# Altium footprint library UCC21520DW.PcbLib: 4 footprints
Each footprint in its own frame and in the unit in brackets; x right, y up, seen from the top. Pads: shape width x height; smd on the part's side, far side on the other; paste and mask are expansions set on the pad; w line width, h text height; cw(c..) or ccw(c..) is an arc to the next point about the centre after c.
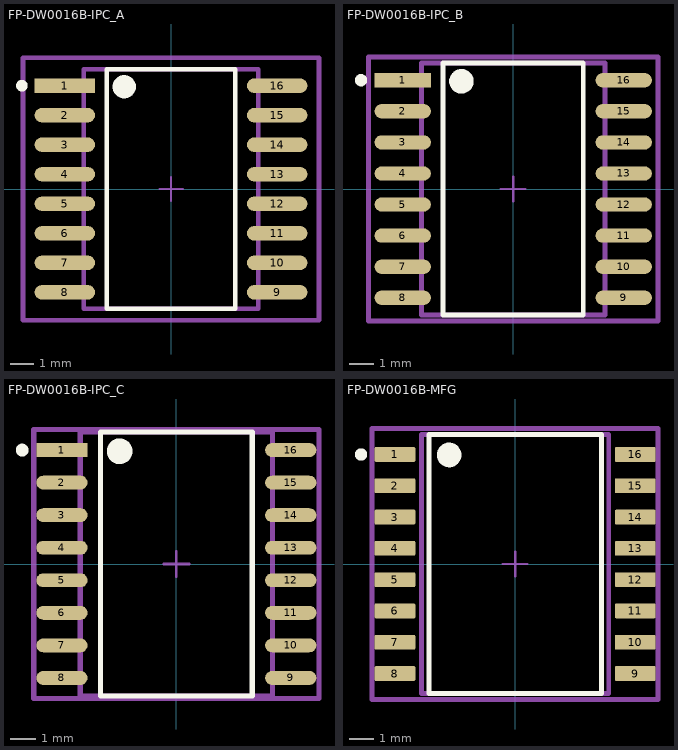
[diagram p0: the footprints below, top view; thin cyan lines are the x and y axes]

## FP-DW0016B-IPC_A [mm]
pads (16):
  rect 2.603x0.622 smd paste+0 mask+0: 1(-4.565,4.445)
  rrect100% 2.603x0.622 smd paste+0 mask+0: 2(-4.565,3.175) 3(-4.565,1.905) 4(-4.565,0.635) 5(-4.565,-0.635) 6(-4.565,-1.905) 7(-4.565,-3.175) 8(-4.565,-4.445) 9(4.565,-4.445) 10(4.565,-3.175) 11(4.565,-1.905) 12(4.565,-0.635) 13(4.565,0.635) 14(4.565,1.905) 15(4.565,3.175) 16(4.565,4.445)
Top Overlay:
  circle w0.25: c-6.417,4.445 r0.125
  circle w0.5: c-2.014,4.4 r0.25
  lines w0.2: -2.764,-5.15 -2.764,5.15 2.764,5.15 2.764,-5.15 -2.764,-5.15
Top 3D Body:
  lines w0.2: -3.75,-5.15 -3.75,5.15 3.75,5.15 3.75,-5.15 -3.75,-5.15
Top Assembly:
  lines w0.2: -6.367,-5.65 -6.367,5.65 6.367,5.65 6.367,-5.65 -6.367,-5.65
  text ".Designator" at 0,0.188 h1
Top Component Center:
  lines w0.1: -0.5,0 0.5,0 ; 0,-0.5 0,0.5
Top Courtyard:
  lines w0.2: -6.367,-5.65 -6.367,5.65 6.367,5.65 6.367,-5.65 -6.367,-5.65
3D body "IC_Texas_Instruments_ISO5852SDWR_eec.STEP": height 0.25, standoff 0, extent -6.367,-5.65 6.367,5.65

## FP-DW0016B-IPC_B [mm]
pads (16):
  rect 2.303x0.582 smd paste+0 mask+0: 1(-4.515,4.445)
  rrect100% 2.303x0.582 smd paste+0 mask+0: 2(-4.515,3.175) 3(-4.515,1.905) 4(-4.515,0.635) 5(-4.515,-0.635) 6(-4.515,-1.905) 7(-4.515,-3.175) 8(-4.515,-4.445) 9(4.515,-4.445) 10(4.515,-3.175) 11(4.515,-1.905) 12(4.515,-0.635) 13(4.515,0.635) 14(4.515,1.905) 15(4.515,3.175) 16(4.515,4.445)
Top Overlay:
  circle w0.25: c-6.217,4.445 r0.125
  circle w0.5: c-2.114,4.4 r0.25
  lines w0.2: -2.864,-5.15 -2.864,5.15 2.864,5.15 2.864,-5.15 -2.864,-5.15
Top 3D Body:
  lines w0.2: -3.75,-5.15 -3.75,5.15 3.75,5.15 3.75,-5.15 -3.75,-5.15
Top Assembly:
  lines w0.2: -5.917,-5.4 -5.917,5.4 5.917,5.4 5.917,-5.4 -5.917,-5.4
  text ".Designator" at 0,0.188 h1
Top Component Center:
  lines w0.1: -0.5,0 0.5,0 ; 0,-0.5 0,0.5
Top Courtyard:
  lines w0.2: -5.917,-5.4 -5.917,5.4 5.917,5.4 5.917,-5.4 -5.917,-5.4
3D body "IC_Texas_Instruments_ISO5852SDWR_eec.STEP": height 0.25, standoff 0, extent -5.917,-5.4 5.917,5.4

## FP-DW0016B-IPC_C [mm]
pads (16):
  rect 2.003x0.542 smd paste+0 mask+0: 1(-4.465,4.445)
  rrect100% 2.003x0.542 smd paste+0 mask+0: 2(-4.465,3.175) 3(-4.465,1.905) 4(-4.465,0.635) 5(-4.465,-0.635) 6(-4.465,-1.905) 7(-4.465,-3.175) 8(-4.465,-4.445) 9(4.465,-4.445) 10(4.465,-3.175) 11(4.465,-1.905) 12(4.465,-0.635) 13(4.465,0.635) 14(4.465,1.905) 15(4.465,3.175) 16(4.465,4.445)
Top Overlay:
  circle w0.25: c-6.017,4.445 r0.125
  circle w0.5: c-2.214,4.4 r0.25
  lines w0.2: -2.964,-5.15 -2.964,5.15 2.964,5.15 2.964,-5.15 -2.964,-5.15
Top 3D Body:
  lines w0.2: -3.75,-5.15 -3.75,5.15 3.75,5.15 3.75,-5.15 -3.75,-5.15
Top Assembly:
  lines w0.2: -5.567,-5.25 -5.567,5.25 5.567,5.25 5.567,-5.25 -5.567,-5.25
  text ".Designator" at 0,0.188 h1
Top Component Center:
  lines w0.1: -0.5,0 0.5,0 ; 0,-0.5 0,0.5
Top Courtyard:
  lines w0.2: -5.567,-5.25 -5.567,5.25 5.567,5.25 5.567,-5.25 -5.567,-5.25
3D body "IC_Texas_Instruments_ISO5852SDWR_eec.STEP": height 0.25, standoff 0, extent -5.567,-5.25 5.567,5.25

## FP-DW0016B-MFG [mm]
pads (16):
  rrect17% 1.65x0.6 smd paste+0 mask+0: 1(-4.875,4.445) 2(-4.875,3.175) 3(-4.875,1.905) 4(-4.875,0.635) 5(-4.875,-0.635) 6(-4.875,-1.905) 7(-4.875,-3.175) 8(-4.875,-4.445) 9(4.875,-4.445) 10(4.875,-3.175) 11(4.875,-1.905) 12(4.875,-0.635) 13(4.875,0.635) 14(4.875,1.905) 15(4.875,3.175) 16(4.875,4.445)
Top Overlay:
  circle w0.25: c-6.25,4.445 r0.125
  circle w0.5: c-2.675,4.425 r0.25
  lines w0.2: -3.5,-5.25 3.5,-5.25 3.5,5.25 -3.5,5.25 -3.5,-5.25
Top 3D Body:
  lines w0.2: -3.8,-5.25 3.8,-5.25 3.8,5.25 -3.8,5.25 -3.8,-5.25
Top Assembly:
  lines w0.2: -5.8,-5.5 5.8,-5.5 5.8,5.5 -5.8,5.5 -5.8,-5.5
  text ".Designator" at 0,0.188 h1
Top Component Center:
  lines w0.1: -0.5,0 0.5,0 ; 0,-0.5 0,0.5
Top Courtyard:
  lines w0.2: -5.8,-5.5 5.8,-5.5 5.8,5.5 -5.8,5.5 -5.8,-5.5
3D body "IC_Texas_Instruments_ISO5852SDWR_eec.STEP": height 0.25, standoff 0, extent -5.8,-5.5 5.8,5.5